# EAGLE library part AD623* (library 838_Components)
AD623 (AD623A NZ|RZ|RMZ, AD623B NZ|RZ) 8-Lead DIP|SOIC|MSOP Rail-to-Rail Instrumentation Amplifier, Single Supply Capability Analog Devices Source: www.analog.com Technologies / Packages AD623 A|B NZ|RZ|RMZ A|B Grade NZ Package: 8-Lead Dual-in-Line (DIP8) RZ Package: 8-Lead Small-Outline (SOIC8) RMZ Package: 8-Lead Mini-Small Outline 0.65mm grid (MSOP8_.65) (Z = RoHs-compliant) Author: Dipl.-Ing. FH Rainer Bayer HHN Hochschule Heilbronn, rainer.bayer@hs-heilbronn.de Ingenieurbüro ing-rb, mail@ing-rb.de
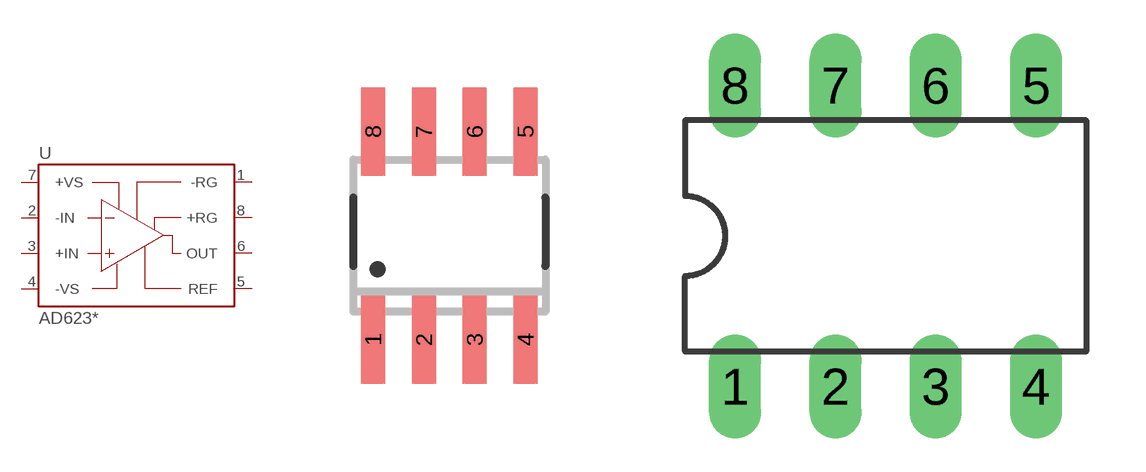
[diagram p7: symbol with the pads of SO8; footprints SO8, DIL08]

Designator prefix U

## AD623ARZ, AD623BRZ, AD623_RZ  [SO8]
1  -RG  pas
2  -IN  in
3  +IN  in
4  -VS  pwr
5  REF  in
6  OUT  out
7  +VS  pwr
8  +RG  pas

## AD623ANZ, AD623BNZ, AD623_NZ  [DIL08]
Pads as for SO8

## AD623ARMZ, AD623_RMZ  [MSOP8_065]
Pads as for SO8

## Footprint SO8 (pad centres in mm)
8-Lead Small Outline IC SOIC8 (SO-8) Source: http://www.analog.com/UploadedFiles/Data_Sheets/703465986AD8611_2_0.pdf
smd 0.6 x 2.2: 1 -1.905,-2.6; 2 -0.635,-2.6; 3 0.635,-2.6; 4 1.905,-2.6; 5 1.905,2.6; 6 0.635,2.6; 7 -0.635,2.6; 8 -1.905,2.6

## Footprint DIL08 (pad centres in mm)
Dual In Line Package
drill 0.813 long: 1 -3.81,-3.81; 2 -1.27,-3.81; 3 1.27,-3.81; 4 3.81,-3.81; 5 3.81,3.81; 6 1.27,3.81; 7 -1.27,3.81; 8 -3.81,3.81

## Footprint MSOP8_065 (pad centres in mm)
Micro Small Outline Package, MSOP8 (.65mm) Grid .65mm
smd 0.45 x 1: 1 -0.975,-2.05; 2 -0.325,-2.05; 3 0.325,-2.05; 4 0.975,-2.05; 5 0.975,2.05; 6 0.325,2.05; 7 -0.325,2.05; 8 -0.975,2.05